# Altium schematic symbol library EL-sense_Switch.SchLib: 3 symbols
Pins are listed as number, name and electrical type; pins without a type are passive.

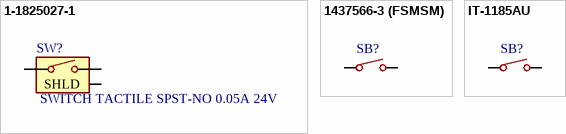
[diagram p0: symbols 1-1825027-1 to IT-1185AU]

## 1-1825027-1
designator SW?, comment SWITCH TACTILE SPST-NO 0.05A 24V
Tactile Switch SPST-NO / Side Actuated Through Hole / Right Angle; Manufacturer: TE Connectivity ALCOSWITCH Switches; Switch Function: OFF-ON; Mechanical Life: 100,000 Cycles; Supplier 1: Digi-Key; Supplier Part Number 1: 450-1658-ND; ComponentLink1Description: HelpURL; ComponentLink1URL: https://www.te.com/commerce/DocumentDelivery/DDEController?Action=srchrtrv&DocNm=1308111-1_SWITCHES_CORE_PROGRAM_CATALOG&DocType=CS&DocLang=English
footprint SWITCH TACTILE SPST-NO
pins: 1, 2, SHLD

## 1437566-3 (FSMSM)
designator SB?  (value not drawn)
SWITCH TACTILE SPST-NO 0.05A 24V; Manufacturer: TE Connectivity ALCOSWITCH Switches; Switch Function: OFF - ON; Mechanical Life: 20,000 Cycles; Supplier 1: Digi-Key; Supplier Part Number 1: 450-1140-ND; ComponentLink1Description: HelpURL; ComponentLink1URL: https://www.te.com/commerce/DocumentDelivery/DDEController?Action=srchrtrv&DocNm=1437566-3&DocType=Customer+Drawing&DocLang=English
footprint FSMSM
pins: 1, 2

## IT-1185AU
designator SB?  (value not drawn)
Ultra Miniature SMD Tactile Push Button Switch, 3mm x 4mm; Manufacturer: TE Connectivity ALCOSWITCH Switches; Switch Function: OFF - ON; Mechanical Life: 20,000 Cycles; Supplier 1: BelChip; Supplier Part Number 1: 3274
footprint SMD_Button
pins: 1, 2